# Altium footprint library L0603.PcbLib: 1 footprints
Each footprint in its own frame and in the unit in brackets; x right, y up, seen from the top. Pads: shape width x height; smd on the part's side, far side on the other; paste and mask are expansions set on the pad; w line width, h text height; cw(c..) or ccw(c..) is an arc to the next point about the centre after c.
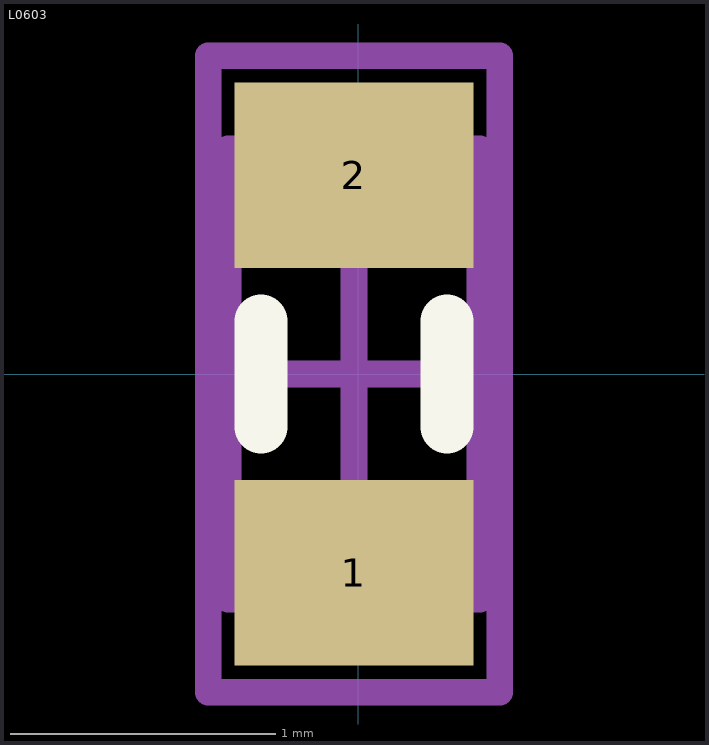
[diagram p0: the footprint, top view; thin cyan lines are the x and y axes]

## L0603 [mm]
pads (2):
  rect 0.9x0.7 smd: 1(-0.016,-0.75) 2(-0.016,0.75)
Top Overlay:
  lines w0.2: -0.366,-0.2 -0.366,0.2 ; 0.334,-0.2 0.334,0.2
Mechanical 13:
  lines w0.1: -0.491,-0.85 0.459,-0.85 0.459,0.85 -0.491,0.85 -0.491,-0.85
Mechanical 15:
  lines w0.1: -0.491,0 0.459,0 ; -0.016,-0.475 -0.016,0.475 ; -0.566,-1.2 0.534,-1.2 0.534,1.2 -0.566,1.2 -0.566,-1.2